# Altium schematic symbol library MAX30101.SchLib: 1 symbol
Pins are listed as number, name and electrical type; pins without a type are passive.

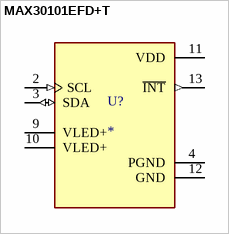
[diagram p0: symbol MAX30101EFD+T]

## MAX30101EFD+T
designator U?
Pulse Oximeter and Heart Rate Sensor Digital Output 1.8V 14-Pin OLGA T/R; MP: MAX30101EFD+T; MF: Maxim Integrated Products; Purchase-URL: https://pricing.snapeda.com/search/part/MAX30101EFD+T/?ref=eda; SnapEDA_Link: https://www.snapeda.com/parts/MAX30101EFD+T/Maxim+Integrated/view-part/?ref=snap; Value: *; Check_prices: https://www.snapeda.com/parts/MAX30101EFD+T/Maxim+Integrated/view-part/?ref=eda; Digi-Key_Part_Number: MAX30101EFD+TTR-ND; Package: None
footprint PSON80P560X330X165-14N
pins: 2 SCL (in), 3 SDA (io), 4 PGND (power), 9 VLED+, 10 VLED+, 11 VDD (power), 12 GND (power), 13 ~{INT} (out)